# Altium footprint library PcbLib1.PcbLib: 38 footprints (part 2 of 3)
Each footprint in its own frame and in the unit in brackets; x right, y up, seen from the top. Pads: shape width x height; smd on the part's side, far side on the other; paste and mask are expansions set on the pad; w line width, h text height; cw(c..) or ccw(c..) is an arc to the next point about the centre after c.
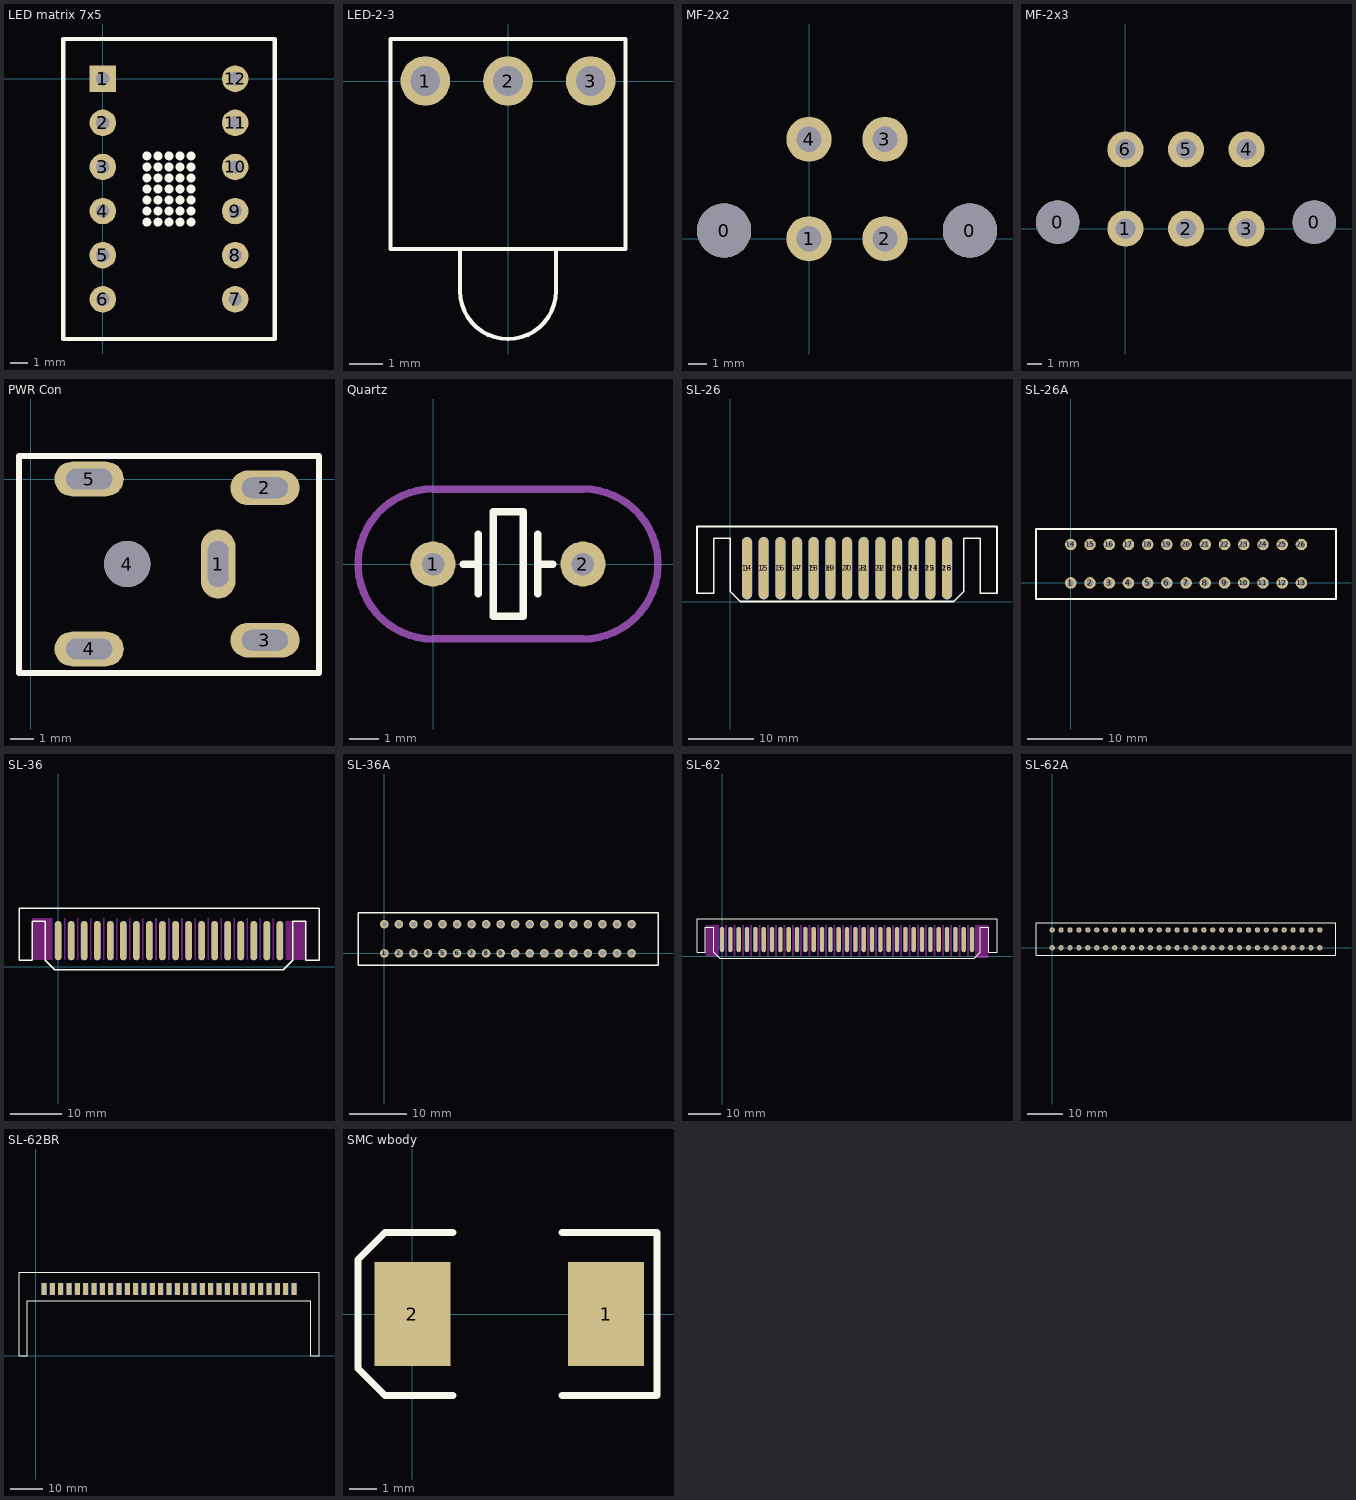
[diagram p1: the footprints below, top view; thin cyan lines are the x and y axes]

## LED matrix 7x5 [mil] "LED matrix 7x5"
pads (12):
  rect 60x60 hole 30: 1(0,0)
  round 60 hole 30: 2(0,-100) 3(0,-200) 4(0,-300) 5(0,-400) 6(0,-500) 7(300,-500) 8(300,-400) 9(300,-300) 10(300,-200) 11(300,-100) 12(300,0)
Top Overlay:
  circle w10: c150,-325 r5
  circle w10: c175,-325 r5
  circle w10: c200,-325 r5
  circle w10: c125,-325 r5
  circle w10: c100,-325 r5
  circle w10: c150,-300 r5
  circle w10: c175,-300 r5
  circle w10: c200,-300 r5
  circle w10: c125,-300 r5
  circle w10: c100,-300 r5
  circle w10: c150,-275 r5
  circle w10: c175,-275 r5
  circle w10: c200,-275 r5
  circle w10: c125,-275 r5
  circle w10: c100,-275 r5
  circle w10: c150,-250 r5
  circle w10: c175,-250 r5
  circle w10: c200,-250 r5
  circle w10: c125,-250 r5
  circle w10: c100,-250 r5
  circle w10: c150,-225 r5
  circle w10: c175,-225 r5
  circle w10: c200,-225 r5
  circle w10: c125,-225 r5
  circle w10: c100,-225 r5
  circle w10: c150,-200 r5
  circle w10: c175,-200 r5
  circle w10: c200,-200 r5
  circle w10: c125,-200 r5
  circle w10: c100,-200 r5
  circle w10: c100,-175 r5
  circle w10: c125,-175 r5
  circle w10: c200,-175 r5
  circle w10: c175,-175 r5
  circle w10: c150,-175 r5
  lines w10: -90,-590 -90,90 390,90 390,-590 -90,-590
3D body: height 250, standoff 50, extent -90,-590 390,90

## LED-2-3 [mm]
pads (3):
  round 1.5 hole 0.9: 1(-2.5,0) 2(0,0) 3(2.5,0)
Top Overlay:
  lines w0.127: -1.45,-6.35 ccw(c0,-6.35) 1.45,-6.35 ; -1.448,-6.35 -1.448,-5.08 ; 1.448,-6.35 1.448,-5.08 ; -3.556,-5.08 -3.556,1.27 3.556,1.27 3.556,-5.08 -3.556,-5.08
3D body: height 3.87, standoff 0.97, extent -1.468,-6.379 1.421,-4.379
3D body: height 3.87, standoff 0.97, extent -1.468,-7.823 1.417,-4.936
3D body: height 4.96, standoff 0.3, extent -3.556,-5.08 3.556,1.27

## MF-2x2 [mm] "4 pin Mini-Fit Connector"
pads (6):
  round 3 hole 3: 0(-4.7,0.45) 0(8.9,0.45)
  round 2.5 hole 1.4: 1(0,0) 2(4.2,0) 3(4.2,5.5) 4(0,5.5)
3D body: height 3, standoff 1, extent -5,0 9,1
3D body: height 12.8, standoff 10, extent 1,-2.7 3,-2
3D body: height 12.8, standoff 1, extent -2.7,-2.05 6.9,7.55
3D body: height 3.7, standoff -3.3, extent -6.05,-0.922 -3.261,1.872
3D body: height 3.7, standoff -3.3, extent 7.55,-0.922 10.339,1.872

## MF-2x3 [mm] "6 pin Mini-Fit Connector"
pads (8):
  round 3 hole 3: 0(-4.7,0.45) 0(13.1,0.45)
  round 2.5 hole 1.4: 1(0,0) 2(4.2,0) 3(8.4,0) 4(8.4,5.5) 5(4.2,5.5) 6(0,5.5)
3D body: height 12.8, standoff 10, extent 3.225,-2.7 5.225,-2
3D body: height 3, standoff 1, extent -4.7,0 13.1,1
3D body: height 3.7, standoff -3.3, extent 11.686,-0.95 14.475,1.844
3D body: height 3.7, standoff -3.3, extent -6.05,-0.922 -3.261,1.872
3D body: height 12.8, standoff 1, extent -2.7,-2.05 11.1,7.55

## PWR Con [mm] "Connector"
pads (6):
  oval 1.5x3 hole 0.9 slot 2 at 90 deg: 1(8.128,-3.683)
  oval 3x1.5 hole 0.9 slot 2 at 0 deg: 2(10.16,-0.381) 3(10.16,-6.985) 4(2.54,-7.366) 5(2.54,0)
  round 2 hole 2: 4(4.191,-3.683)
Top Overlay:
  lines w0.254: -0.5,-8.4 -0.5,1 12.5,1 12.5,-8.4 -0.5,-8.4
3D body: height 10, standoff 0, extent 0,-7.366 12,0

## Quartz [mil]
pads (2):
  round 60 hole 30: 1(0,0) 2(200,0)
Top Overlay:
  lines w10: 40,0 60,0 ; 60,-40 60,40 ; 140,-40 140,40 ; 140,0 160,0 ; 80,-70 80,70 120,70 120,-70 80,-70
Mechanical 1:
  lines w10: 0,-100 cw(c0,0) 0,100 200,100 cw(c200,0) 200,-100 0,-100
3D body: height 30, standoff 10, extent -99.61,-100 99.61,99.61
3D body: height 30, standoff 10, extent 100.39,-100 299.61,99.61
3D body: height 30, standoff 10, extent 0.39,-100 200.39,100
3D body: height 90, standoff 30, extent 0,-79.84 200.32,80
3D body: height 90, standoff 30, extent 120.63,-79.84 280,79.84
3D body: height 90, standoff 30, extent -79.68,-79.68 79.68,80

## RS-150-24 [mil] "Power supply 24V 6.5A 150W"
3D body: height 1496.06, standoff 0, extent 0,-7834.65 3858.27,0

## RS-150-24 up [mil] "Power supply 24V 6.5A 150W"
3D body: height 3858.27, standoff 0, extent 0,-7834.65 1496.06,0

## SL-26 [mil]
pads (26):
  oval 60x374.02 smd: 1(100,200) 2(200,200) 3(300,200) 4(400,200) 5(500,200) 6(600,200) 7(700,200) 8(800,200) 9(900,200) 10(1000,200) 11(1100,200) 12(1200,200) 13(1300,200)
  oval 60x374.02 smd far side: 14(100,200) 15(200,200) 16(300,200) 17(400,200) 18(500,200) 19(600,200) 20(700,200) 21(800,200) 22(900,200) 23(1000,200) 24(1100,200) 25(1200,200) 26(1300,200)
Top Overlay:
  lines w10: -200,50 -200,450 -80,450 1480,450 1600,450 1600,50 1500,50 1500,380 1400,380 1400,60 1340,0 60,0 0,60 0,380 -100,380 -100,50 -200,50

## SL-26A [mil] "Mother Slot"
pads (26):
  round 60 hole 35.43: 1(0,0) 2(100,0) 3(200,0) 4(300,0) 5(400,0) 6(500,0) 7(600,0) 8(700,0) 9(800,0) 10(900,0) 11(1000,0) 12(1100,0) 13(1200,0) 14(0,200) 15(100,200) 16(200,200) 17(300,200) 18(400,200) 19(500,200) 20(600,200) 21(700,200) 22(800,200) 23(900,200) 24(1000,200) 25(1100,200) 26(1200,200)
Top Overlay:
  lines w10: -181.1,-82.68 1380,-82.68 1380,279.53 -181.1,279.53 -181.1,-82.68
3D body: height 259.84, standoff 23.62, extent -98.43,-43.31 1307.09,236.22
3D body: height 633.86, standoff 259.84, extent -181.1,-82.68 1377.95,59.06
3D body: height 633.86, standoff 259.84, extent -181.1,137.8 1377.95,279.53
3D body: height 633.86, standoff 259.84, extent -181.1,59.06 -98.43,137.8
3D body: height 633.86, standoff 259.84, extent 1307.09,59.06 1377.95,137.8

## SL-36 [mil]
pads (36):
  oval 50x300 smd: 1(0,200) 2(100,200) 3(200,200) 4(300,200) 5(400,200) 6(500,200) 7(600,200) 8(700,200) 9(800,200) 10(900,200) 11(1000,200) 12(1100,200) 13(1200,200) 14(1300,200) 15(1400,200) 16(1500,200) 17(1600,200) 18(1700,200)
  oval 50x300 smd far side: 19(0,200) 20(100,200) 21(200,200) 22(300,200) 23(400,200) 24(500,200) 25(600,200) 26(700,200) 27(800,200) 28(900,200) 29(1000,200) 30(1100,200) 31(1200,200) 32(1300,200) 33(1400,200) 34(1500,200) 35(1600,200) 36(1700,200)
Top Overlay:
  lines w10: -300,50 -300,450 -180,450 2000,450 2000,50 1900,50 1900,350 1800,350 1800,50 1725,-25 -25,-25 -100,50 -100,350 -200,350 -200,50 -300,50
Top Solder:
  rectangle: -100,-25 1800,375
Bottom Solder:
  rectangle: -100,-25 1800,375
Keep-Out Layer:
  rectangle: 1643.75,50 1656.25,375
  rectangle: 1543.75,50 1556.25,375
  rectangle: 1443.75,50 1456.25,375
  rectangle: 1343.75,50 1356.25,375
  rectangle: 1243.75,50 1256.25,375
  rectangle: 1143.75,50 1156.25,375
  rectangle: 1043.75,50 1056.25,375
  rectangle: 943.75,50 956.25,375
  rectangle: 843.75,50 856.25,375
  rectangle: 743.75,50 756.25,375
  rectangle: 643.75,50 656.25,375
  rectangle: 543.75,50 556.25,375
  rectangle: 443.75,50 456.25,375
  rectangle: 343.75,50 356.25,375
  rectangle: 243.75,50 256.25,375
  rectangle: 143.75,50 156.25,375
  rectangle: 1743.75,50 1900,350
  rectangle: -200,50 -43.75,375
  rectangle: 43.75,50 56.25,375

## SL-36A [mm] "Mother Slot"
pads (36):
  round 1.5 hole 0.9: 1(0,0) 2(2.54,0) 3(5.08,0) 4(7.62,0) 5(10.16,0) 6(12.7,0) 7(15.24,0) 8(17.78,0) 9(20.32,0) 10(22.86,0) 11(25.4,0) 12(27.94,0) 13(30.48,0) 14(33.02,0) 15(35.56,0) 16(38.1,0) 17(40.64,0) 18(43.18,0) 19(0,5.08) 20(2.54,5.08) 21(5.08,5.08) 22(7.62,5.08) 23(10.16,5.08) 24(12.7,5.08) 25(15.24,5.08) 26(17.78,5.08) 27(20.32,5.08) 28(22.86,5.08) 29(25.4,5.08) 30(27.94,5.08) 31(30.48,5.08) 32(33.02,5.08) 33(35.56,5.08) 34(38.1,5.08) 35(40.64,5.08) 36(43.18,5.08)
Top Overlay:
  lines w0.254: -4.6,-2.1 -4.6,7.1 47.8,7.1 47.8,-2.1 -4.6,-2.1
3D body: height 16.1, standoff 6.6, extent 46,1.5 47.8,3.5
3D body: height 16.1, standoff 6.6, extent -4.6,1.5 -2.5,3.5
3D body: height 16.1, standoff 6.6, extent -4.6,3.5 47.8,7.1
3D body: height 16.1, standoff 6.6, extent -4.6,-2.1 47.8,1.5
3D body: height 6.6, standoff 0.6, extent -2.5,-1.136 46,6

## SL-62 [mil]
pads (62):
  oval 50x300 smd: 1(0,200) 2(100,200) 3(200,200) 4(300,200) 5(400,200) 6(500,200) 7(600,200) 8(700,200) 9(800,200) 10(900,200) 11(1000,200) 12(1100,200) 13(1200,200) 14(1300,200) 15(1400,200) 16(1500,200) 17(1600,200) 18(1700,200) 19(1800,200) 20(1900,200) 21(2000,200) 22(2100,200) 23(2200,200) 24(2300,200) 25(2400,200) 26(2500,200) 27(2600,200) 28(2700,200) 29(2800,200) 30(2900,200) 31(3000,200)
  oval 50x300 smd far side: 32(0,200) 33(100,200) 34(200,200) 35(300,200) 36(400,200) 37(500,200) 38(600,200) 39(700,200) 40(800,200) 41(900,200) 42(1000,200) 43(1100,200) 44(1200,200) 45(1300,200) 46(1400,200) 47(1500,200) 48(1600,200) 49(1700,200) 50(1800,200) 51(1900,200) 52(2000,200) 53(2100,200) 54(2200,200) 55(2300,200) 56(2400,200) 57(2500,200) 58(2600,200) 59(2700,200) 60(2800,200) 61(2900,200) 62(3000,200)
Top Overlay:
  lines w10: -300,50 -200,50 -200,350 -100,350 -100,50 -25,-25 1735,-25 3025,-25 3100,50 3100,350 3200,350 3200,50 3300,50 3300,450 3180,450 1620,450 1500,450 1380,450 -180,450 -300,450 -300,50
Top Solder:
  rectangle: -93.75,-25 3100,375
Bottom Solder:
  rectangle: -100,-37.5 3100,375
Keep-Out Layer:
  rectangle: 2937.5,0 2962.5,375
  rectangle: 2837.5,0 2862.5,375
  rectangle: 2737.5,0 2762.5,375
  rectangle: 2637.5,0 2662.5,375
  rectangle: 2537.5,0 2562.5,375
  rectangle: 2437.5,0 2462.5,375
  rectangle: 2337.5,0 2362.5,375
  rectangle: 2237.5,0 2262.5,375
  rectangle: 2137.5,0 2162.5,375
  rectangle: 2037.5,0 2062.5,375
  rectangle: 1937.5,0 1962.5,375
  rectangle: 1837.5,0 1862.5,375
  rectangle: 1737.5,0 1762.5,375
  rectangle: 1637.5,0 1662.5,375
  rectangle: 1537.5,0 1562.5,375
  rectangle: 1437.5,0 1462.5,375
  rectangle: 1337.5,0 1362.5,375
  rectangle: 1237.5,0 1262.5,375
  rectangle: 1137.5,0 1162.5,375
  rectangle: 1037.5,0 1062.5,375
  rectangle: 937.5,0 962.5,375
  rectangle: 837.5,0 862.5,375
  rectangle: 737.5,0 762.5,375
  rectangle: 637.5,0 662.5,375
  rectangle: 537.5,0 562.5,375
  rectangle: 437.5,0 462.5,375
  rectangle: 337.5,0 362.5,375
  rectangle: 237.5,0 262.5,375
  rectangle: 137.5,0 162.5,375
  rectangle: 37.5,0 62.5,375
  rectangle: -200,0 -37.5,375
  rectangle: 3037.5,-19.68 3200.79,375

## SL-62A [mm] "Mother Slot"
pads (62):
  round 1.5 hole 0.9: 1(0,0) 2(2.54,0) 3(5.08,0) 4(7.62,0) 5(10.16,0) 6(12.7,0) 7(15.24,0) 8(17.78,0) 9(20.32,0) 10(22.86,0) 11(25.4,0) 12(27.94,0) 13(30.48,0) 14(33.02,0) 15(35.56,0) 16(38.1,0) 17(40.64,0) 18(43.18,0) 19(45.72,0) 20(48.26,0) 21(50.8,0) 22(53.34,0) 23(55.88,0) 24(58.42,0) 25(60.96,0) 26(63.5,0) 27(66.04,0) 28(68.58,0) 29(71.12,0) 30(73.66,0) 31(76.2,0) 32(0,5.08) 33(2.54,5.08) 34(5.08,5.08) 35(7.62,5.08) 36(10.16,5.08) 37(12.7,5.08) 38(15.24,5.08) 39(17.78,5.08) 40(20.32,5.08) 41(22.86,5.08) 42(25.4,5.08) 43(27.94,5.08) 44(30.48,5.08) 45(33.02,5.08) 46(35.56,5.08) 47(38.1,5.08) 48(40.64,5.08) 49(43.18,5.08) 50(45.72,5.08) 51(48.26,5.08) 52(50.8,5.08) 53(53.34,5.08) 54(55.88,5.08) 55(58.42,5.08) 56(60.96,5.08) 57(63.5,5.08) 58(66.04,5.08) 59(68.58,5.08) 60(71.12,5.08) 61(73.66,5.08) 62(76.2,5.08)
Top Overlay:
  lines w0.254: -4.6,-2.1 -4.6,7.1 80.8,7.1 80.8,-2.1 -4.6,-2.1
3D body: height 16.1, standoff 6.6, extent 79,1.5 80.8,3.5
3D body: height 16.1, standoff 6.6, extent -4.6,1.5 -2.5,3.5
3D body: height 16.1, standoff 6.6, extent -4.6,3.5 80.8,7.1
3D body: height 16.1, standoff 6.6, extent -4.6,-2.1 80.8,1.5
3D body: height 6.6, standoff 0.6, extent -2.5,-1 79,6

## SL-62BR [mil]
pads (62):
  rect 60x141.73 smd: 1(100,800) 2(200,800) 3(300,800) 4(400,800) 5(500,800) 6(600,800) 7(700,800) 8(800,800) 9(900,800) 10(1000,800) 11(1100,800) 12(1200,800) 13(1300,800) 14(1400,800) 15(1500,800) 16(1600,800) 17(1700,800) 18(1800,800) 19(1900,800) 20(2000,800) 21(2100,800) 22(2200,800) 23(2300,800) 24(2400,800) 25(2500,800) 26(2600,800) 27(2700,800) 28(2800,800) 29(2900,800) 30(3000,800) 31(3100,800)
  rect 60x141.73 smd far side: 32(100,800) 33(200,800) 34(300,800) 35(400,800) 36(500,800) 37(600,800) 38(700,800) 39(800,800) 40(900,800) 41(1000,800) 42(1100,800) 43(1200,800) 44(1300,800) 45(1400,800) 46(1500,800) 47(1600,800) 48(1700,800) 49(1800,800) 50(1900,800) 51(2000,800) 52(2100,800) 53(2200,800) 54(2300,800) 55(2400,800) 56(2500,800) 57(2600,800) 58(2700,800) 59(2800,800) 60(2900,800) 61(3000,800) 62(3100,800)
Top Overlay:
  lines w10: 3300,50 3300,380 ; -200,0 -100,0 -100,660 3300,660 3300,0 3400,0 3400,1000 -200,1000 -200,0
3D body: height 181.1, standoff -181.1, extent -94.49,0 3287.4,649.61

## SMC wbody [mil]
pads (2):
  rect 110x150 smd: 1(280.51,0) 2(0,0)
Top Overlay:
  lines w10: 59.06,-118.11 -39.37,-118.11 -78.74,-78.74 -78.74,78.74 -39.37,118.11 59.06,118.11 ; 216.54,-118.11 354.33,-118.11 354.33,118.11 216.54,118.11
3D body: height 83.86, standoff 9.06, extent 0,-118.11 275.59,118.11